# Altium schematic symbol library ludi_console_v1.SchLib: 10 symbols
Pins are listed as number, name and electrical type; pins without a type are passive.

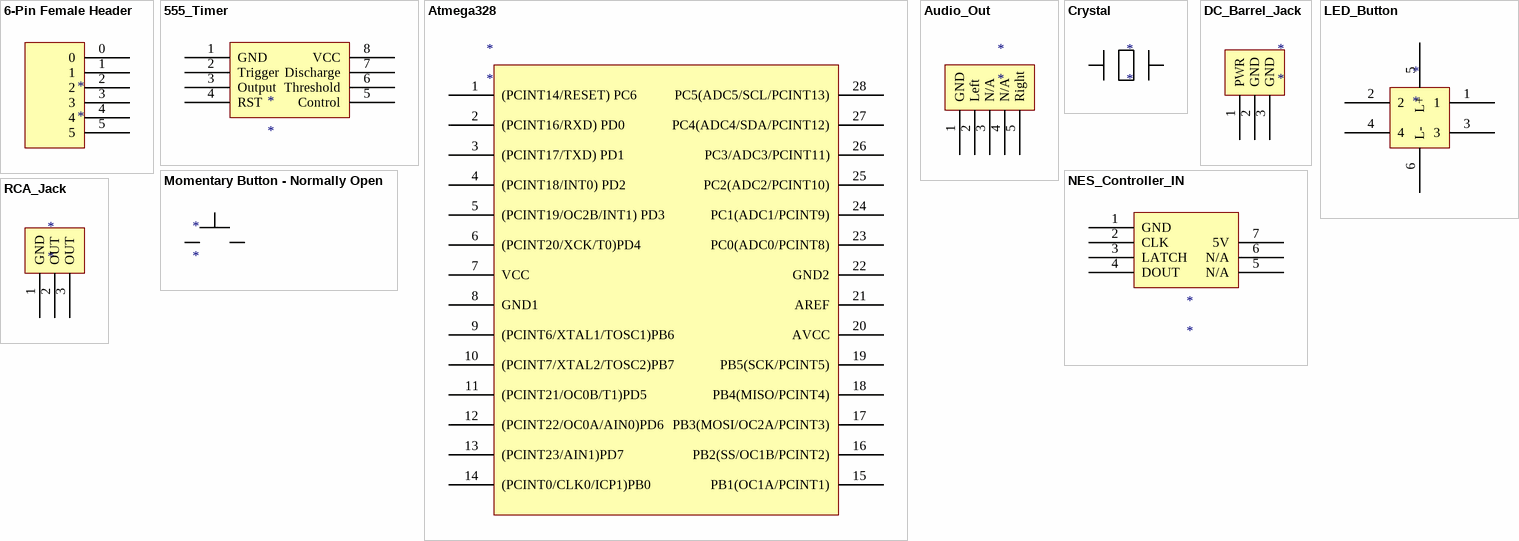
[diagram p0: symbols 6-Pin Female Header to RCA_Jack]

## 6-Pin Female Header
designator *
footprint HDR1X6
pins: 0  0, 1  1, 2  2, 3  3, 4  4, 5  5

## 555_Timer
designator *
footprint DIP-8 (DIP, 8-Pin, Row Spacing 7.62 mm, Pitch 2.54 mm)
pins: 1 GND, 2 Trigger, 3 Output, 4 RST, 5 Control, 6 Threshold, 7 Discharge, 8 VCC

## Atmega328
designator *
footprint DIP-28 (DIP, 28-Pin, Row Spacing 7.62 mm, Pitch 2.54 mm)
footprint AtmegaTQFP
pins: 1 (PCINT14/RESET) PC6, 2 (PCINT16/RXD) PD0, 3 (PCINT17/TXD) PD1, 4 (PCINT18/INT0) PD2, 5 (PCINT19/OC2B/INT1) PD3, 6 (PCINT20/XCK/T0)PD4, 7 VCC, 8 GND1, 9 (PCINT6/XTAL1/TOSC1)PB6, 10 (PCINT7/XTAL2/TOSC2)PB7, 11 (PCINT21/OC0B/T1)PD5, 12 (PCINT22/OC0A/AIN0)PD6, 13 (PCINT23/AIN1)PD7, 14 (PCINT0/CLK0/ICP1)PB0, 15 PB1(OC1A/PCINT1), 16 PB2(SS/OC1B/PCINT2), 17 PB3(MOSI/OC2A/PCINT3), 18 PB4(MISO/PCINT4), 19 PB5(SCK/PCINT5), 20 AVCC, 21 AREF, 22 GND2, 23 PC0(ADC0/PCINT8), 24 PC1(ADC1/PCINT9), 25 PC2(ADC2/PCINT10), 26 PC3/ADC3/PCINT11), 27 PC4(ADC4/SDA/PCINT12), 28 PC5(ADC5/SCL/PCINT13)

## Audio_Out
designator *
footprint Audio_Jack
pins: 1 GND, 2 Left, 3 N/A, 4 N/A, 5 Right

## Crystal
designator *
footprint Crystal - duplicate
pins: A 0, K 1

## DC_Barrel_Jack
designator *
footprint Barrel_Jack
pins: 1 PWR, 2 GND, 3 GND

## LED_Button
designator *
pins: 1, 2, 3, 4, 5 L+, 6 L-

## Momentary Button - Normally Open
designator *
pins: 0, 1

## NES_Controller_IN
designator *
footprint NES_Socket_Pin_Out
pins: 1 GND, 2 CLK, 3 LATCH, 4 DOUT, 5 N/A, 6 N/A, 7 5V

## RCA_Jack
designator *
footprint RCA_Jack
pins: 1 GND, 2 OUT, 3 OUT